# Altium integrated library Microchip Microcontroller 8-Bit PIC16 2.IntLib: 1656 symbols (part 2 of 56)
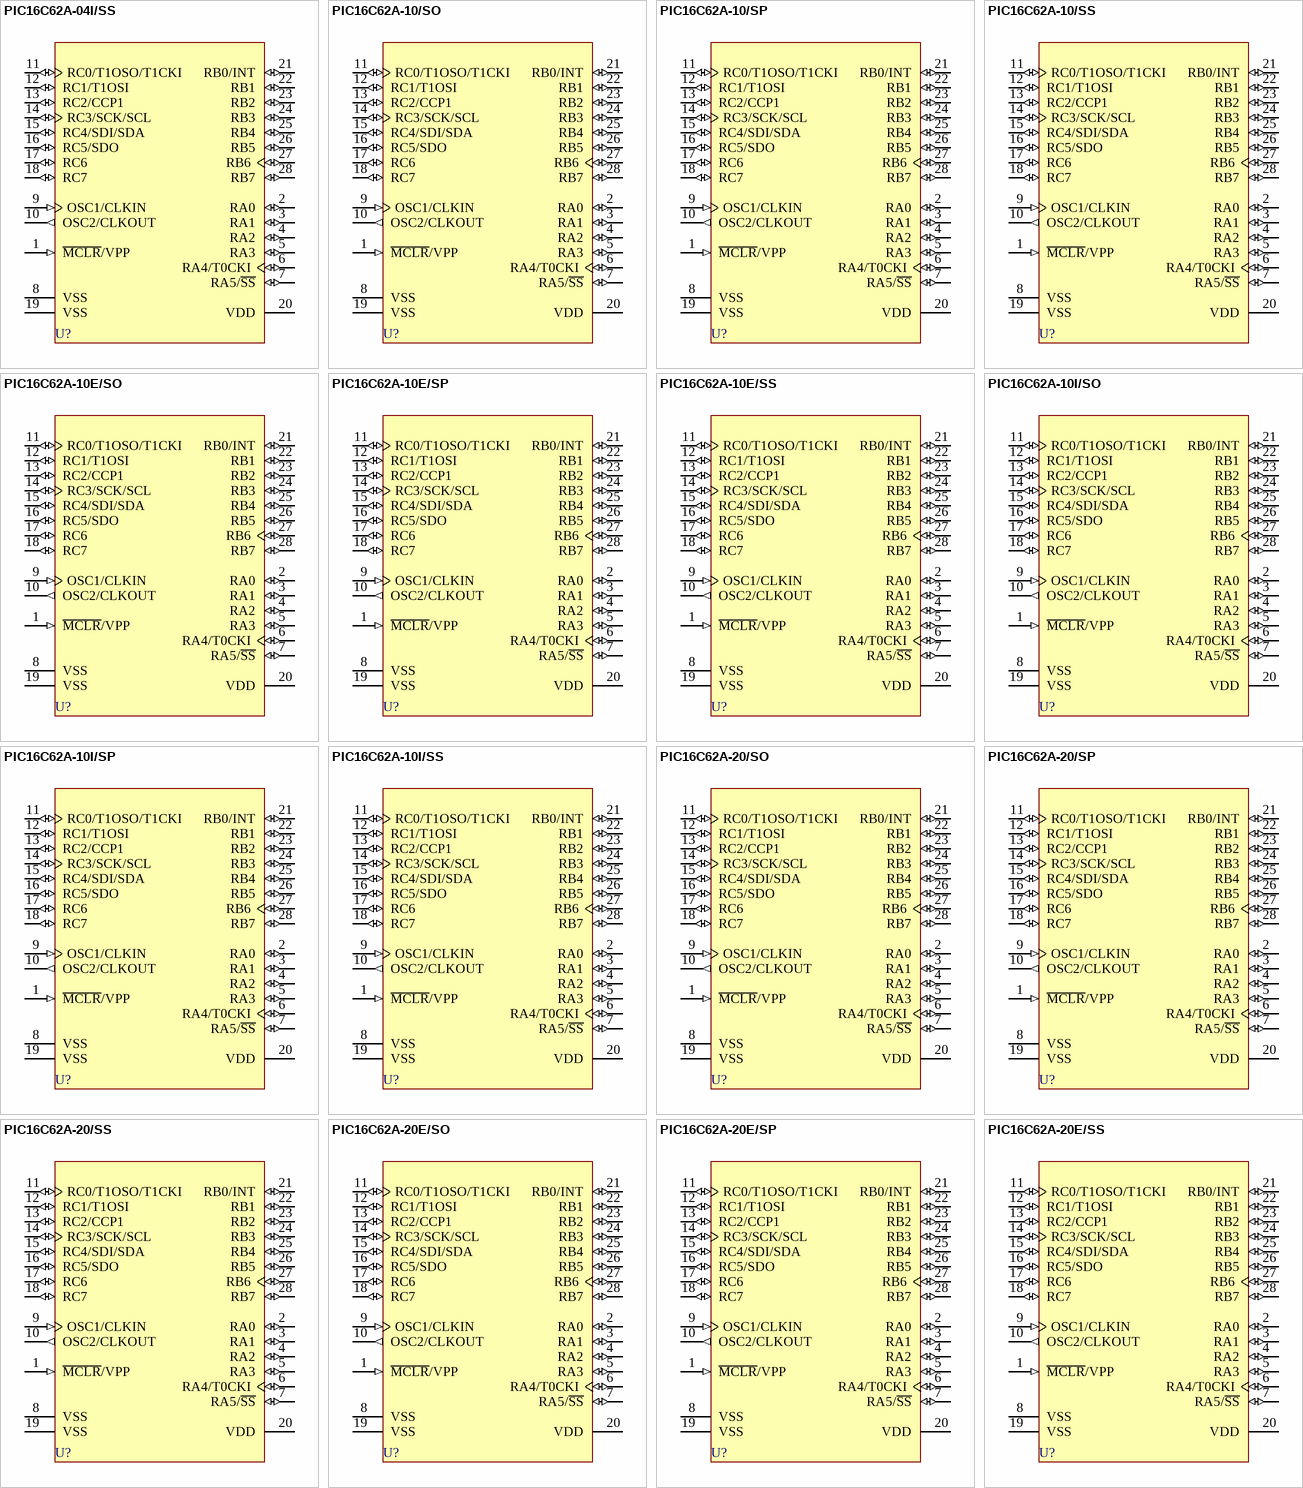
[diagram p109: symbols PIC16C62A-04I/SS to PIC16C62A-20E/SS]

## PIC16C62A-20/SP
designator U?
EPROM-Based 8-Bit CMOS Microcontroller; Note: Not recommended for new designs. Consider PIC16C62B or PIC16F72 instead.; Note: Pin functions T1OSO and T1OSI are reversed on the PIC16C62; Published: 8-Jun-2000; LatestRevisionDate: 04-Mar-2005; LatestRevisionNote: Stylized 3D Model Added.; DatasheetVersion: DS30234D_1997; PackageVersion: 2003; PackageReference: PDIP300-28; Publisher: Altium Limited; PackageDescription: DIP, Plastic, Skinny; 28 Leads; Row Spacing 7.62 mm; Pitch 2.54 mm; Code_JEDEC: MO-095; ComponentLink1Description: Manufacturer Link; ComponentLink1URL: http://www.microchip.com; ComponentLink2Description: Datasheet; ComponentLink2URL: http://ww1.microchip.com/downloads/en/DeviceDoc/30234d.pdf; ComponentLink3Description: Packaging Specification; ComponentLink3URL: http://ww1.microchip.com/downloads/en/PackagingSpec/00049AD.pdf
footprint PDIP300-28 (DIP, Plastic, Skinny; 28 Leads; Row Spacing 7.62 mm; Pitch 2.54 mm)
3D model PDIP300-28 (DIP, Plastic, Skinny; 28 Leads; Row Spacing 7.62 mm; Pitch 2.54 mm)
pins: 1 ~{MCLR}/VPP (in), 2 RA0 (io), 3 RA1 (io), 4 RA2 (io), 5 RA3 (io), 6 RA4/T0CKI (io), 7 RA5/~{SS} (io), 8 VSS (power), 9 OSC1/CLKIN (in), 10 OSC2/CLKOUT (out), 11 RC0/T1OSO/T1CKI (io), 12 RC1/T1OSI (io), 13 RC2/CCP1 (io), 14 RC3/SCK/SCL (io), 15 RC4/SDI/SDA (io), 16 RC5/SDO (io), 17 RC6 (io), 18 RC7 (io), 19 VSS (power), 20 VDD (power), 21 RB0/INT (io), 22 RB1 (io), 23 RB2 (io), 24 RB3 (io), 25 RB4 (io), 26 RB5 (io), 27 RB6 (io), 28 RB7 (io)

## PIC16C62A-20/SS
designator U?
EPROM-Based 8-Bit CMOS Microcontroller; Note: Not recommended for new designs. Consider PIC16C62B or PIC16F72 instead.; Note: Pin functions T1OSO and T1OSI are reversed on the PIC16C62; Published: 8-Jun-2000; LatestRevisionDate: 04-Mar-2005; LatestRevisionNote: Stylized 3D Model Added.; DatasheetVersion: DS30234D_1997; PackageVersion: 2005; PackageReference: SSOP-28; Publisher: Altium Limited; PackageDescription: SSOP, Plastic; 28 Leads; Body Width 5.2 mm; Pitch 0.65 mm; Code_JEDEC: MS-150; ComponentLink1Description: Manufacturer Link; ComponentLink1URL: http://www.microchip.com; ComponentLink2Description: Datasheet; ComponentLink2URL: http://ww1.microchip.com/downloads/en/DeviceDoc/30234d.pdf; ComponentLink3Description: Packaging Specification; ComponentLink3URL: http://ww1.microchip.com/downloads/en/PackagingSpec/00049AD.pdf
footprint SSOP-28 (SSOP, Plastic; 28 Leads; Body Width 5.2 mm; Pitch 0.65 mm)
3D model SSOP-28 (SSOP, Plastic; 28 Leads; Body Width 5.2 mm; Pitch 0.65 mm)
pins: 1 ~{MCLR}/VPP (in), 2 RA0 (io), 3 RA1 (io), 4 RA2 (io), 5 RA3 (io), 6 RA4/T0CKI (io), 7 RA5/~{SS} (io), 8 VSS (power), 9 OSC1/CLKIN (in), 10 OSC2/CLKOUT (out), 11 RC0/T1OSO/T1CKI (io), 12 RC1/T1OSI (io), 13 RC2/CCP1 (io), 14 RC3/SCK/SCL (io), 15 RC4/SDI/SDA (io), 16 RC5/SDO (io), 17 RC6 (io), 18 RC7 (io), 19 VSS (power), 20 VDD (power), 21 RB0/INT (io), 22 RB1 (io), 23 RB2 (io), 24 RB3 (io), 25 RB4 (io), 26 RB5 (io), 27 RB6 (io), 28 RB7 (io)

## PIC16C62A-20E/SO
designator U?
EPROM-Based 8-Bit CMOS Microcontroller; Note: Not recommended for new designs. Consider PIC16C62B or PIC16F72 instead.; Note: Pin functions T1OSO and T1OSI are reversed on the PIC16C62; Published: 8-Jun-2000; LatestRevisionDate: 13-Apr-2006; LatestRevisionNote: IPC-7351 Footprint Added.; DatasheetVersion: DS30234D_1997; PackageVersion: 2005; PackageReference: SOIC300-28; Publisher: Altium Limited; PackageDescription: 28-Pin Small Outline Integrated Circuit 1.27 mm Pitch; Code_JEDEC: MS-013; ComponentLink1Description: Manufacturer Link; ComponentLink1URL: http://www.microchip.com; ComponentLink2Description: Datasheet; ComponentLink2URL: http://ww1.microchip.com/downloads/en/DeviceDoc/30234d.pdf; ComponentLink3Description: Packaging Specification; ComponentLink3URL: http://ww1.microchip.com/downloads/en/PackagingSpec/00049AD.pdf
footprint SOIC300-28_N (SOIC, 28-Leads, Body 17.9x7.5mm, Pitch 1.27mm, IPC Medium Density)
footprint SOIC300-28_L (SOIC, 28-Leads, Body 17.9x7.5mm, Pitch 1.27mm, IPC High Density)
footprint SOIC300-28_M (SOIC, 28-Leads, Body 17.9x7.5mm, Pitch 1.27mm, IPC Low Density)
3D model SOIC300-28 (28-Pin Small Outline Integrated Circuit 1.27 mm Pitch)
pins: 1 ~{MCLR}/VPP (in), 2 RA0 (io), 3 RA1 (io), 4 RA2 (io), 5 RA3 (io), 6 RA4/T0CKI (io), 7 RA5/~{SS} (io), 8 VSS (power), 9 OSC1/CLKIN (in), 10 OSC2/CLKOUT (out), 11 RC0/T1OSO/T1CKI (io), 12 RC1/T1OSI (io), 13 RC2/CCP1 (io), 14 RC3/SCK/SCL (io), 15 RC4/SDI/SDA (io), 16 RC5/SDO (io), 17 RC6 (io), 18 RC7 (io), 19 VSS (power), 20 VDD (power), 21 RB0/INT (io), 22 RB1 (io), 23 RB2 (io), 24 RB3 (io), 25 RB4 (io), 26 RB5 (io), 27 RB6 (io), 28 RB7 (io)

## PIC16C62A-20E/SP
designator U?
EPROM-Based 8-Bit CMOS Microcontroller; Note: Not recommended for new designs. Consider PIC16C62B or PIC16F72 instead.; Note: Pin functions T1OSO and T1OSI are reversed on the PIC16C62; Published: 8-Jun-2000; LatestRevisionDate: 04-Mar-2005; LatestRevisionNote: Stylized 3D Model Added.; DatasheetVersion: DS30234D_1997; PackageVersion: 2003; PackageReference: PDIP300-28; Publisher: Altium Limited; PackageDescription: DIP, Plastic, Skinny; 28 Leads; Row Spacing 7.62 mm; Pitch 2.54 mm; Code_JEDEC: MO-095; ComponentLink1Description: Manufacturer Link; ComponentLink1URL: http://www.microchip.com; ComponentLink2Description: Datasheet; ComponentLink2URL: http://ww1.microchip.com/downloads/en/DeviceDoc/30234d.pdf; ComponentLink3Description: Packaging Specification; ComponentLink3URL: http://ww1.microchip.com/downloads/en/PackagingSpec/00049AD.pdf
footprint PDIP300-28 (DIP, Plastic, Skinny; 28 Leads; Row Spacing 7.62 mm; Pitch 2.54 mm)
3D model PDIP300-28 (DIP, Plastic, Skinny; 28 Leads; Row Spacing 7.62 mm; Pitch 2.54 mm)
pins: 1 ~{MCLR}/VPP (in), 2 RA0 (io), 3 RA1 (io), 4 RA2 (io), 5 RA3 (io), 6 RA4/T0CKI (io), 7 RA5/~{SS} (io), 8 VSS (power), 9 OSC1/CLKIN (in), 10 OSC2/CLKOUT (out), 11 RC0/T1OSO/T1CKI (io), 12 RC1/T1OSI (io), 13 RC2/CCP1 (io), 14 RC3/SCK/SCL (io), 15 RC4/SDI/SDA (io), 16 RC5/SDO (io), 17 RC6 (io), 18 RC7 (io), 19 VSS (power), 20 VDD (power), 21 RB0/INT (io), 22 RB1 (io), 23 RB2 (io), 24 RB3 (io), 25 RB4 (io), 26 RB5 (io), 27 RB6 (io), 28 RB7 (io)

## PIC16C62A-20E/SS
designator U?
EPROM-Based 8-Bit CMOS Microcontroller; Note: Not recommended for new designs. Consider PIC16C62B or PIC16F72 instead.; Note: Pin functions T1OSO and T1OSI are reversed on the PIC16C62; Published: 8-Jun-2000; LatestRevisionDate: 04-Mar-2005; LatestRevisionNote: Stylized 3D Model Added.; DatasheetVersion: DS30234D_1997; PackageVersion: 2005; PackageReference: SSOP-28; Publisher: Altium Limited; PackageDescription: SSOP, Plastic; 28 Leads; Body Width 5.2 mm; Pitch 0.65 mm; Code_JEDEC: MS-150; ComponentLink1Description: Manufacturer Link; ComponentLink1URL: http://www.microchip.com; ComponentLink2Description: Datasheet; ComponentLink2URL: http://ww1.microchip.com/downloads/en/DeviceDoc/30234d.pdf; ComponentLink3Description: Packaging Specification; ComponentLink3URL: http://ww1.microchip.com/downloads/en/PackagingSpec/00049AD.pdf
footprint SSOP-28 (SSOP, Plastic; 28 Leads; Body Width 5.2 mm; Pitch 0.65 mm)
3D model SSOP-28 (SSOP, Plastic; 28 Leads; Body Width 5.2 mm; Pitch 0.65 mm)
pins: 1 ~{MCLR}/VPP (in), 2 RA0 (io), 3 RA1 (io), 4 RA2 (io), 5 RA3 (io), 6 RA4/T0CKI (io), 7 RA5/~{SS} (io), 8 VSS (power), 9 OSC1/CLKIN (in), 10 OSC2/CLKOUT (out), 11 RC0/T1OSO/T1CKI (io), 12 RC1/T1OSI (io), 13 RC2/CCP1 (io), 14 RC3/SCK/SCL (io), 15 RC4/SDI/SDA (io), 16 RC5/SDO (io), 17 RC6 (io), 18 RC7 (io), 19 VSS (power), 20 VDD (power), 21 RB0/INT (io), 22 RB1 (io), 23 RB2 (io), 24 RB3 (io), 25 RB4 (io), 26 RB5 (io), 27 RB6 (io), 28 RB7 (io)

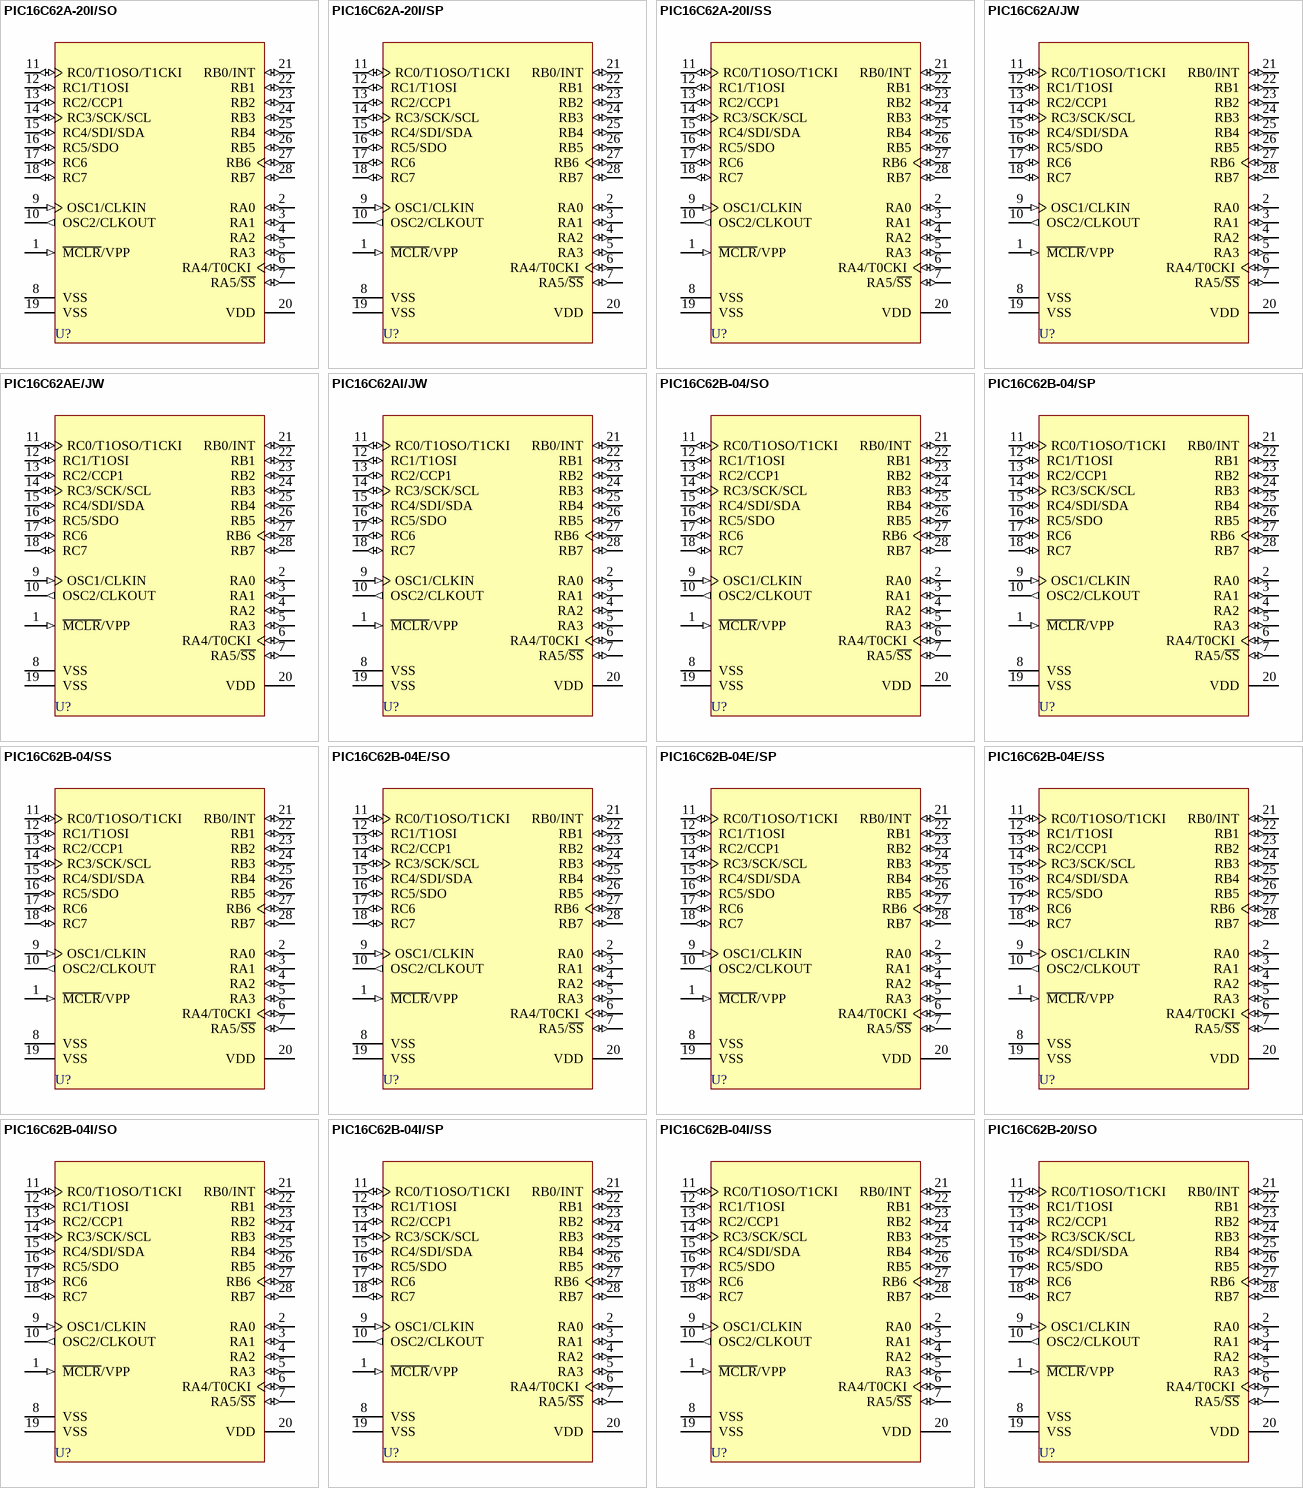
[diagram p2: symbols PIC16C62A-20I/SO to PIC16C62B-20/SO]

## PIC16C62A-20I/SO
designator U?
EPROM-Based 8-Bit CMOS Microcontroller; Note: Not recommended for new designs. Consider PIC16C62B or PIC16F72 instead.; Note: Pin functions T1OSO and T1OSI are reversed on the PIC16C62; Published: 8-Jun-2000; LatestRevisionDate: 13-Apr-2006; LatestRevisionNote: IPC-7351 Footprint Added.; DatasheetVersion: DS30234D_1997; PackageVersion: 2005; PackageReference: SOIC300-28; Publisher: Altium Limited; PackageDescription: 28-Pin Small Outline Integrated Circuit 1.27 mm Pitch; Code_JEDEC: MS-013; ComponentLink1Description: Manufacturer Link; ComponentLink1URL: http://www.microchip.com; ComponentLink2Description: Datasheet; ComponentLink2URL: http://ww1.microchip.com/downloads/en/DeviceDoc/30234d.pdf; ComponentLink3Description: Packaging Specification; ComponentLink3URL: http://ww1.microchip.com/downloads/en/PackagingSpec/00049AD.pdf
footprint SOIC300-28_N (SOIC, 28-Leads, Body 17.9x7.5mm, Pitch 1.27mm, IPC Medium Density)
footprint SOIC300-28_L (SOIC, 28-Leads, Body 17.9x7.5mm, Pitch 1.27mm, IPC High Density)
footprint SOIC300-28_M (SOIC, 28-Leads, Body 17.9x7.5mm, Pitch 1.27mm, IPC Low Density)
3D model SOIC300-28 (28-Pin Small Outline Integrated Circuit 1.27 mm Pitch)
pins: 1 ~{MCLR}/VPP (in), 2 RA0 (io), 3 RA1 (io), 4 RA2 (io), 5 RA3 (io), 6 RA4/T0CKI (io), 7 RA5/~{SS} (io), 8 VSS (power), 9 OSC1/CLKIN (in), 10 OSC2/CLKOUT (out), 11 RC0/T1OSO/T1CKI (io), 12 RC1/T1OSI (io), 13 RC2/CCP1 (io), 14 RC3/SCK/SCL (io), 15 RC4/SDI/SDA (io), 16 RC5/SDO (io), 17 RC6 (io), 18 RC7 (io), 19 VSS (power), 20 VDD (power), 21 RB0/INT (io), 22 RB1 (io), 23 RB2 (io), 24 RB3 (io), 25 RB4 (io), 26 RB5 (io), 27 RB6 (io), 28 RB7 (io)

## PIC16C62A-20I/SP
designator U?
EPROM-Based 8-Bit CMOS Microcontroller; Note: Not recommended for new designs. Consider PIC16C62B or PIC16F72 instead.; Note: Pin functions T1OSO and T1OSI are reversed on the PIC16C62; Published: 8-Jun-2000; LatestRevisionDate: 04-Mar-2005; LatestRevisionNote: Stylized 3D Model Added.; DatasheetVersion: DS30234D_1997; PackageVersion: 2003; PackageReference: PDIP300-28; Publisher: Altium Limited; PackageDescription: DIP, Plastic, Skinny; 28 Leads; Row Spacing 7.62 mm; Pitch 2.54 mm; Code_JEDEC: MO-095; ComponentLink1Description: Manufacturer Link; ComponentLink1URL: http://www.microchip.com; ComponentLink2Description: Datasheet; ComponentLink2URL: http://ww1.microchip.com/downloads/en/DeviceDoc/30234d.pdf; ComponentLink3Description: Packaging Specification; ComponentLink3URL: http://ww1.microchip.com/downloads/en/PackagingSpec/00049AD.pdf
footprint PDIP300-28 (DIP, Plastic, Skinny; 28 Leads; Row Spacing 7.62 mm; Pitch 2.54 mm)
3D model PDIP300-28 (DIP, Plastic, Skinny; 28 Leads; Row Spacing 7.62 mm; Pitch 2.54 mm)
pins: 1 ~{MCLR}/VPP (in), 2 RA0 (io), 3 RA1 (io), 4 RA2 (io), 5 RA3 (io), 6 RA4/T0CKI (io), 7 RA5/~{SS} (io), 8 VSS (power), 9 OSC1/CLKIN (in), 10 OSC2/CLKOUT (out), 11 RC0/T1OSO/T1CKI (io), 12 RC1/T1OSI (io), 13 RC2/CCP1 (io), 14 RC3/SCK/SCL (io), 15 RC4/SDI/SDA (io), 16 RC5/SDO (io), 17 RC6 (io), 18 RC7 (io), 19 VSS (power), 20 VDD (power), 21 RB0/INT (io), 22 RB1 (io), 23 RB2 (io), 24 RB3 (io), 25 RB4 (io), 26 RB5 (io), 27 RB6 (io), 28 RB7 (io)

## PIC16C62A-20I/SS
designator U?
EPROM-Based 8-Bit CMOS Microcontroller; Note: Not recommended for new designs. Consider PIC16C62B or PIC16F72 instead.; Note: Pin functions T1OSO and T1OSI are reversed on the PIC16C62; Published: 8-Jun-2000; LatestRevisionDate: 04-Mar-2005; LatestRevisionNote: Stylized 3D Model Added.; DatasheetVersion: DS30234D_1997; PackageVersion: 2005; PackageReference: SSOP-28; Publisher: Altium Limited; PackageDescription: SSOP, Plastic; 28 Leads; Body Width 5.2 mm; Pitch 0.65 mm; Code_JEDEC: MS-150; ComponentLink1Description: Manufacturer Link; ComponentLink1URL: http://www.microchip.com; ComponentLink2Description: Datasheet; ComponentLink2URL: http://ww1.microchip.com/downloads/en/DeviceDoc/30234d.pdf; ComponentLink3Description: Packaging Specification; ComponentLink3URL: http://ww1.microchip.com/downloads/en/PackagingSpec/00049AD.pdf
footprint SSOP-28 (SSOP, Plastic; 28 Leads; Body Width 5.2 mm; Pitch 0.65 mm)
3D model SSOP-28 (SSOP, Plastic; 28 Leads; Body Width 5.2 mm; Pitch 0.65 mm)
pins: 1 ~{MCLR}/VPP (in), 2 RA0 (io), 3 RA1 (io), 4 RA2 (io), 5 RA3 (io), 6 RA4/T0CKI (io), 7 RA5/~{SS} (io), 8 VSS (power), 9 OSC1/CLKIN (in), 10 OSC2/CLKOUT (out), 11 RC0/T1OSO/T1CKI (io), 12 RC1/T1OSI (io), 13 RC2/CCP1 (io), 14 RC3/SCK/SCL (io), 15 RC4/SDI/SDA (io), 16 RC5/SDO (io), 17 RC6 (io), 18 RC7 (io), 19 VSS (power), 20 VDD (power), 21 RB0/INT (io), 22 RB1 (io), 23 RB2 (io), 24 RB3 (io), 25 RB4 (io), 26 RB5 (io), 27 RB6 (io), 28 RB7 (io)

## PIC16C62A/JW
designator U?
EPROM-Based 8-Bit CMOS Microcontroller; Note: Not recommended for new designs. Consider PIC16C62B or PIC16F72 instead.; Note: Pin functions T1OSO and T1OSI are reversed on the PIC16C62; Published: 8-Jun-2000; LatestRevisionDate: 04-Mar-2005; LatestRevisionNote: Stylized 3D Model Added.; DatasheetVersion: DS30234D_1997; PackageVersion: 2005; PackageReference: SideBrazed-28; Publisher: Altium Limited; PackageDescription: DIP, Side Brazed, Window; 28 Leads; Row Spacing 7.62 mm; Pitch 2.54 mm; Code_JEDEC: MS-015; ComponentLink1Description: Manufacturer Link; ComponentLink1URL: http://www.microchip.com; ComponentLink2Description: Datasheet; ComponentLink2URL: http://ww1.microchip.com/downloads/en/DeviceDoc/30234d.pdf; ComponentLink3Description: Packaging Specification; ComponentLink3URL: http://ww1.microchip.com/downloads/en/PackagingSpec/00049AD.pdf
footprint SideBrazed-28 (DIP, Side Brazed, Window; 28 Leads; Row Spacing 7.62 mm; Pitch 2.54 mm)
3D model SideBrazed-28 (DIP, Side Brazed, Window; 28 Leads; Row Spacing 7.62 mm; Pitch 2.54 mm)
pins: 1 ~{MCLR}/VPP (in), 2 RA0 (io), 3 RA1 (io), 4 RA2 (io), 5 RA3 (io), 6 RA4/T0CKI (io), 7 RA5/~{SS} (io), 8 VSS (power), 9 OSC1/CLKIN (in), 10 OSC2/CLKOUT (out), 11 RC0/T1OSO/T1CKI (io), 12 RC1/T1OSI (io), 13 RC2/CCP1 (io), 14 RC3/SCK/SCL (io), 15 RC4/SDI/SDA (io), 16 RC5/SDO (io), 17 RC6 (io), 18 RC7 (io), 19 VSS (power), 20 VDD (power), 21 RB0/INT (io), 22 RB1 (io), 23 RB2 (io), 24 RB3 (io), 25 RB4 (io), 26 RB5 (io), 27 RB6 (io), 28 RB7 (io)

## PIC16C62AE/JW
designator U?
EPROM-Based 8-Bit CMOS Microcontroller; Note: Not recommended for new designs. Consider PIC16C62B or PIC16F72 instead.; Note: Pin functions T1OSO and T1OSI are reversed on the PIC16C62; Published: 8-Jun-2000; LatestRevisionDate: 04-Mar-2005; LatestRevisionNote: Stylized 3D Model Added.; DatasheetVersion: DS30234D_1997; PackageVersion: 2005; PackageReference: SideBrazed-28; Publisher: Altium Limited; PackageDescription: DIP, Side Brazed, Window; 28 Leads; Row Spacing 7.62 mm; Pitch 2.54 mm; Code_JEDEC: MS-015; ComponentLink1Description: Manufacturer Link; ComponentLink1URL: http://www.microchip.com; ComponentLink2Description: Datasheet; ComponentLink2URL: http://ww1.microchip.com/downloads/en/DeviceDoc/30234d.pdf; ComponentLink3Description: Packaging Specification; ComponentLink3URL: http://ww1.microchip.com/downloads/en/PackagingSpec/00049AD.pdf
footprint SideBrazed-28 (DIP, Side Brazed, Window; 28 Leads; Row Spacing 7.62 mm; Pitch 2.54 mm)
3D model SideBrazed-28 (DIP, Side Brazed, Window; 28 Leads; Row Spacing 7.62 mm; Pitch 2.54 mm)
pins: 1 ~{MCLR}/VPP (in), 2 RA0 (io), 3 RA1 (io), 4 RA2 (io), 5 RA3 (io), 6 RA4/T0CKI (io), 7 RA5/~{SS} (io), 8 VSS (power), 9 OSC1/CLKIN (in), 10 OSC2/CLKOUT (out), 11 RC0/T1OSO/T1CKI (io), 12 RC1/T1OSI (io), 13 RC2/CCP1 (io), 14 RC3/SCK/SCL (io), 15 RC4/SDI/SDA (io), 16 RC5/SDO (io), 17 RC6 (io), 18 RC7 (io), 19 VSS (power), 20 VDD (power), 21 RB0/INT (io), 22 RB1 (io), 23 RB2 (io), 24 RB3 (io), 25 RB4 (io), 26 RB5 (io), 27 RB6 (io), 28 RB7 (io)

## PIC16C62AI/JW
designator U?
EPROM-Based 8-Bit CMOS Microcontroller; Note: Not recommended for new designs. Consider PIC16C62B or PIC16F72 instead.; Note: Pin functions T1OSO and T1OSI are reversed on the PIC16C62; Published: 8-Jun-2000; LatestRevisionDate: 04-Mar-2005; LatestRevisionNote: Stylized 3D Model Added.; DatasheetVersion: DS30234D_1997; PackageVersion: 2005; PackageReference: SideBrazed-28; Publisher: Altium Limited; PackageDescription: DIP, Side Brazed, Window; 28 Leads; Row Spacing 7.62 mm; Pitch 2.54 mm; Code_JEDEC: MS-015; ComponentLink1Description: Manufacturer Link; ComponentLink1URL: http://www.microchip.com; ComponentLink2Description: Datasheet; ComponentLink2URL: http://ww1.microchip.com/downloads/en/DeviceDoc/30234d.pdf; ComponentLink3Description: Packaging Specification; ComponentLink3URL: http://ww1.microchip.com/downloads/en/PackagingSpec/00049AD.pdf
footprint SideBrazed-28 (DIP, Side Brazed, Window; 28 Leads; Row Spacing 7.62 mm; Pitch 2.54 mm)
3D model SideBrazed-28 (DIP, Side Brazed, Window; 28 Leads; Row Spacing 7.62 mm; Pitch 2.54 mm)
pins: 1 ~{MCLR}/VPP (in), 2 RA0 (io), 3 RA1 (io), 4 RA2 (io), 5 RA3 (io), 6 RA4/T0CKI (io), 7 RA5/~{SS} (io), 8 VSS (power), 9 OSC1/CLKIN (in), 10 OSC2/CLKOUT (out), 11 RC0/T1OSO/T1CKI (io), 12 RC1/T1OSI (io), 13 RC2/CCP1 (io), 14 RC3/SCK/SCL (io), 15 RC4/SDI/SDA (io), 16 RC5/SDO (io), 17 RC6 (io), 18 RC7 (io), 19 VSS (power), 20 VDD (power), 21 RB0/INT (io), 22 RB1 (io), 23 RB2 (io), 24 RB3 (io), 25 RB4 (io), 26 RB5 (io), 27 RB6 (io), 28 RB7 (io)

## PIC16C62B-04/SO
designator U?
8-Bit CMOS Microcontroller, 128 Bytes RAM, 4 MHz, 28-Pin SOIC, Standard VDD Range, Commercial Temperature; Note: 4.0 to 5.5V Supply Range in XT, RC and LP osc modes.; Note: 4.5 to 5.5V Supply Range in HS osc mode.; Note: 25mA source/sink per I/O.; Published: 11-Oct-2004; LatestRevisionDate: 13-Apr-2006; LatestRevisionNote: IPC-7351 Footprint Added.; DatasheetVersion: DS35008B_1999; PackageVersion: 2005; PackageReference: SOIC300-28; Publisher: Altium Limited; PackageDescription: 28-Pin Small Outline Integrated Circuit 1.27 mm Pitch; Code_JEDEC: MS-013; ComponentLink1Description: Manufacturer Link; ComponentLink1URL: http://www.microchip.com; ComponentLink2Description: Datasheet; ComponentLink2URL: http://ww1.microchip.com/downloads/en/DeviceDoc/35008b.pdf; ComponentLink3Description: Packaging Specification; ComponentLink3URL: http://ww1.microchip.com/downloads/en/PackagingSpec/00049AD.pdf
footprint SOIC300-28_N (SOIC, 28-Leads, Body 17.9x7.5mm, Pitch 1.27mm, IPC Medium Density)
footprint SOIC300-28_L (SOIC, 28-Leads, Body 17.9x7.5mm, Pitch 1.27mm, IPC High Density)
footprint SOIC300-28_M (SOIC, 28-Leads, Body 17.9x7.5mm, Pitch 1.27mm, IPC Low Density)
3D model SOIC300-28 (28-Pin Small Outline Integrated Circuit 1.27 mm Pitch)
pins: 1 ~{MCLR}/VPP (in), 2 RA0 (io), 3 RA1 (io), 4 RA2 (io), 5 RA3 (io), 6 RA4/T0CKI (io), 7 RA5/~{SS} (io), 8 VSS (power), 9 OSC1/CLKIN (in), 10 OSC2/CLKOUT (out), 11 RC0/T1OSO/T1CKI (io), 12 RC1/T1OSI (io), 13 RC2/CCP1 (io), 14 RC3/SCK/SCL (io), 15 RC4/SDI/SDA (io), 16 RC5/SDO (io), 17 RC6 (io), 18 RC7 (io), 19 VSS (power), 20 VDD (power), 21 RB0/INT (io), 22 RB1 (io), 23 RB2 (io), 24 RB3 (io), 25 RB4 (io), 26 RB5 (io), 27 RB6 (io), 28 RB7 (io)

## PIC16C62B-04/SP
designator U?
8-Bit CMOS Microcontroller, 128 Bytes RAM, 4 MHz, 28-Pin PDIP 300mil, Standard VDD Range, Commercial Temperature; Note: 4.0 to 5.5V Supply Range in XT, RC and LP osc modes.; Note: 4.5 to 5.5V Supply Range in HS osc mode.; Note: 25mA source/sink per I/O.; Published: 11-Oct-2004; LatestRevisionDate: 04-Mar-2005; LatestRevisionNote: Stylized 3D Model Added.; DatasheetVersion: DS35008B_1999; PackageVersion: 2003; PackageReference: PDIP300-28; Publisher: Altium Limited; PackageDescription: DIP, Plastic, Skinny; 28 Leads; Row Spacing 7.62 mm; Pitch 2.54 mm; Code_JEDEC: MO-095; ComponentLink1Description: Manufacturer Link; ComponentLink1URL: http://www.microchip.com; ComponentLink2Description: Datasheet; ComponentLink2URL: http://ww1.microchip.com/downloads/en/DeviceDoc/35008b.pdf; ComponentLink3Description: Packaging Specification; ComponentLink3URL: http://ww1.microchip.com/downloads/en/PackagingSpec/00049AD.pdf
footprint PDIP300-28 (DIP, Plastic, Skinny; 28 Leads; Row Spacing 7.62 mm; Pitch 2.54 mm)
3D model PDIP300-28 (DIP, Plastic, Skinny; 28 Leads; Row Spacing 7.62 mm; Pitch 2.54 mm)
pins: 1 ~{MCLR}/VPP (in), 2 RA0 (io), 3 RA1 (io), 4 RA2 (io), 5 RA3 (io), 6 RA4/T0CKI (io), 7 RA5/~{SS} (io), 8 VSS (power), 9 OSC1/CLKIN (in), 10 OSC2/CLKOUT (out), 11 RC0/T1OSO/T1CKI (io), 12 RC1/T1OSI (io), 13 RC2/CCP1 (io), 14 RC3/SCK/SCL (io), 15 RC4/SDI/SDA (io), 16 RC5/SDO (io), 17 RC6 (io), 18 RC7 (io), 19 VSS (power), 20 VDD (power), 21 RB0/INT (io), 22 RB1 (io), 23 RB2 (io), 24 RB3 (io), 25 RB4 (io), 26 RB5 (io), 27 RB6 (io), 28 RB7 (io)

## PIC16C62B-04/SS
designator U?
8-Bit CMOS Microcontroller, 128 Bytes RAM, 4 MHz, 28-Pin SSOP, Standard VDD Range, Commercial Temperature; Note: 4.0 to 5.5V Supply Range in XT, RC and LP osc modes.; Note: 4.5 to 5.5V Supply Range in HS osc mode.; Note: 25mA source/sink per I/O.; Published: 11-Oct-2004; LatestRevisionDate: 04-Mar-2005; LatestRevisionNote: Stylized 3D Model Added.; DatasheetVersion: DS35008B_1999; PackageVersion: 2005; PackageReference: SSOP-28; Publisher: Altium Limited; PackageDescription: SSOP, Plastic; 28 Leads; Body Width 5.2 mm; Pitch 0.65 mm; Code_JEDEC: MS-150; ComponentLink1Description: Manufacturer Link; ComponentLink1URL: http://www.microchip.com; ComponentLink2Description: Datasheet; ComponentLink2URL: http://ww1.microchip.com/downloads/en/DeviceDoc/35008b.pdf; ComponentLink3Description: Packaging Specification; ComponentLink3URL: http://ww1.microchip.com/downloads/en/PackagingSpec/00049AD.pdf
footprint SSOP-28 (SSOP, Plastic; 28 Leads; Body Width 5.2 mm; Pitch 0.65 mm)
3D model SSOP-28 (SSOP, Plastic; 28 Leads; Body Width 5.2 mm; Pitch 0.65 mm)
pins: 1 ~{MCLR}/VPP (in), 2 RA0 (io), 3 RA1 (io), 4 RA2 (io), 5 RA3 (io), 6 RA4/T0CKI (io), 7 RA5/~{SS} (io), 8 VSS (power), 9 OSC1/CLKIN (in), 10 OSC2/CLKOUT (out), 11 RC0/T1OSO/T1CKI (io), 12 RC1/T1OSI (io), 13 RC2/CCP1 (io), 14 RC3/SCK/SCL (io), 15 RC4/SDI/SDA (io), 16 RC5/SDO (io), 17 RC6 (io), 18 RC7 (io), 19 VSS (power), 20 VDD (power), 21 RB0/INT (io), 22 RB1 (io), 23 RB2 (io), 24 RB3 (io), 25 RB4 (io), 26 RB5 (io), 27 RB6 (io), 28 RB7 (io)

## PIC16C62B-04E/SO
designator U?
8-Bit CMOS Microcontroller, 128 Bytes RAM, 4 MHz, 28-Pin SOIC, Standard VDD Range, Extended Temperature; Note: 4.0 to 5.5V Supply Range in XT, RC and LP osc modes.; Note: 4.5 to 5.5V Supply Range in HS osc mode.; Note: 25mA source/sink per I/O.; Published: 11-Oct-2004; LatestRevisionDate: 13-Apr-2006; LatestRevisionNote: IPC-7351 Footprint Added.; DatasheetVersion: DS35008B_1999; PackageVersion: 2005; PackageReference: SOIC300-28; Publisher: Altium Limited; PackageDescription: 28-Pin Small Outline Integrated Circuit 1.27 mm Pitch; Code_JEDEC: MS-013; ComponentLink1Description: Manufacturer Link; ComponentLink1URL: http://www.microchip.com; ComponentLink2Description: Datasheet; ComponentLink2URL: http://ww1.microchip.com/downloads/en/DeviceDoc/35008b.pdf; ComponentLink3Description: Packaging Specification; ComponentLink3URL: http://ww1.microchip.com/downloads/en/PackagingSpec/00049AD.pdf
footprint SOIC300-28_N (SOIC, 28-Leads, Body 17.9x7.5mm, Pitch 1.27mm, IPC Medium Density)
footprint SOIC300-28_L (SOIC, 28-Leads, Body 17.9x7.5mm, Pitch 1.27mm, IPC High Density)
footprint SOIC300-28_M (SOIC, 28-Leads, Body 17.9x7.5mm, Pitch 1.27mm, IPC Low Density)
3D model SOIC300-28 (28-Pin Small Outline Integrated Circuit 1.27 mm Pitch)
pins: 1 ~{MCLR}/VPP (in), 2 RA0 (io), 3 RA1 (io), 4 RA2 (io), 5 RA3 (io), 6 RA4/T0CKI (io), 7 RA5/~{SS} (io), 8 VSS (power), 9 OSC1/CLKIN (in), 10 OSC2/CLKOUT (out), 11 RC0/T1OSO/T1CKI (io), 12 RC1/T1OSI (io), 13 RC2/CCP1 (io), 14 RC3/SCK/SCL (io), 15 RC4/SDI/SDA (io), 16 RC5/SDO (io), 17 RC6 (io), 18 RC7 (io), 19 VSS (power), 20 VDD (power), 21 RB0/INT (io), 22 RB1 (io), 23 RB2 (io), 24 RB3 (io), 25 RB4 (io), 26 RB5 (io), 27 RB6 (io), 28 RB7 (io)

## PIC16C62B-04E/SP
designator U?
8-Bit CMOS Microcontroller, 128 Bytes RAM, 4 MHz, 28-Pin PDIP 300mil, Standard VDD Range, Extended Temperature; Note: 4.0 to 5.5V Supply Range in XT, RC and LP osc modes.; Note: 4.5 to 5.5V Supply Range in HS osc mode.; Note: 25mA source/sink per I/O.; Published: 11-Oct-2004; LatestRevisionDate: 04-Mar-2005; LatestRevisionNote: Stylized 3D Model Added.; DatasheetVersion: DS35008B_1999; PackageVersion: 2003; PackageReference: PDIP300-28; Publisher: Altium Limited; PackageDescription: DIP, Plastic, Skinny; 28 Leads; Row Spacing 7.62 mm; Pitch 2.54 mm; Code_JEDEC: MO-095; ComponentLink1Description: Manufacturer Link; ComponentLink1URL: http://www.microchip.com; ComponentLink2Description: Datasheet; ComponentLink2URL: http://ww1.microchip.com/downloads/en/DeviceDoc/35008b.pdf; ComponentLink3Description: Packaging Specification; ComponentLink3URL: http://ww1.microchip.com/downloads/en/PackagingSpec/00049AD.pdf
footprint PDIP300-28 (DIP, Plastic, Skinny; 28 Leads; Row Spacing 7.62 mm; Pitch 2.54 mm)
3D model PDIP300-28 (DIP, Plastic, Skinny; 28 Leads; Row Spacing 7.62 mm; Pitch 2.54 mm)
pins: 1 ~{MCLR}/VPP (in), 2 RA0 (io), 3 RA1 (io), 4 RA2 (io), 5 RA3 (io), 6 RA4/T0CKI (io), 7 RA5/~{SS} (io), 8 VSS (power), 9 OSC1/CLKIN (in), 10 OSC2/CLKOUT (out), 11 RC0/T1OSO/T1CKI (io), 12 RC1/T1OSI (io), 13 RC2/CCP1 (io), 14 RC3/SCK/SCL (io), 15 RC4/SDI/SDA (io), 16 RC5/SDO (io), 17 RC6 (io), 18 RC7 (io), 19 VSS (power), 20 VDD (power), 21 RB0/INT (io), 22 RB1 (io), 23 RB2 (io), 24 RB3 (io), 25 RB4 (io), 26 RB5 (io), 27 RB6 (io), 28 RB7 (io)

## PIC16C62B-04E/SS
designator U?
8-Bit CMOS Microcontroller, 128 Bytes RAM, 4 MHz, 28-Pin SSOP, Standard VDD Range, Extended Temperature; Note: 4.0 to 5.5V Supply Range in XT, RC and LP osc modes.; Note: 4.5 to 5.5V Supply Range in HS osc mode.; Note: 25mA source/sink per I/O.; Published: 11-Oct-2004; LatestRevisionDate: 04-Mar-2005; LatestRevisionNote: Stylized 3D Model Added.; DatasheetVersion: DS35008B_1999; PackageVersion: 2005; PackageReference: SSOP-28; Publisher: Altium Limited; PackageDescription: SSOP, Plastic; 28 Leads; Body Width 5.2 mm; Pitch 0.65 mm; Code_JEDEC: MS-150; ComponentLink1Description: Manufacturer Link; ComponentLink1URL: http://www.microchip.com; ComponentLink2Description: Datasheet; ComponentLink2URL: http://ww1.microchip.com/downloads/en/DeviceDoc/35008b.pdf; ComponentLink3Description: Packaging Specification; ComponentLink3URL: http://ww1.microchip.com/downloads/en/PackagingSpec/00049AD.pdf
footprint SSOP-28 (SSOP, Plastic; 28 Leads; Body Width 5.2 mm; Pitch 0.65 mm)
3D model SSOP-28 (SSOP, Plastic; 28 Leads; Body Width 5.2 mm; Pitch 0.65 mm)
pins: 1 ~{MCLR}/VPP (in), 2 RA0 (io), 3 RA1 (io), 4 RA2 (io), 5 RA3 (io), 6 RA4/T0CKI (io), 7 RA5/~{SS} (io), 8 VSS (power), 9 OSC1/CLKIN (in), 10 OSC2/CLKOUT (out), 11 RC0/T1OSO/T1CKI (io), 12 RC1/T1OSI (io), 13 RC2/CCP1 (io), 14 RC3/SCK/SCL (io), 15 RC4/SDI/SDA (io), 16 RC5/SDO (io), 17 RC6 (io), 18 RC7 (io), 19 VSS (power), 20 VDD (power), 21 RB0/INT (io), 22 RB1 (io), 23 RB2 (io), 24 RB3 (io), 25 RB4 (io), 26 RB5 (io), 27 RB6 (io), 28 RB7 (io)

## PIC16C62B-04I/SO
designator U?
8-Bit CMOS Microcontroller, 128 Bytes RAM, 4 MHz, 28-Pin SOIC, Standard VDD Range, Industrial Temperature; Note: 4.0 to 5.5V Supply Range in XT, RC and LP osc modes.; Note: 4.5 to 5.5V Supply Range in HS osc mode.; Note: 25mA source/sink per I/O.; Published: 11-Oct-2004; LatestRevisionDate: 13-Apr-2006; LatestRevisionNote: IPC-7351 Footprint Added.; DatasheetVersion: DS35008B_1999; PackageVersion: 2005; PackageReference: SOIC300-28; Publisher: Altium Limited; PackageDescription: 28-Pin Small Outline Integrated Circuit 1.27 mm Pitch; Code_JEDEC: MS-013; ComponentLink1Description: Manufacturer Link; ComponentLink1URL: http://www.microchip.com; ComponentLink2Description: Datasheet; ComponentLink2URL: http://ww1.microchip.com/downloads/en/DeviceDoc/35008b.pdf; ComponentLink3Description: Packaging Specification; ComponentLink3URL: http://ww1.microchip.com/downloads/en/PackagingSpec/00049AD.pdf
footprint SOIC300-28_N (SOIC, 28-Leads, Body 17.9x7.5mm, Pitch 1.27mm, IPC Medium Density)
footprint SOIC300-28_L (SOIC, 28-Leads, Body 17.9x7.5mm, Pitch 1.27mm, IPC High Density)
footprint SOIC300-28_M (SOIC, 28-Leads, Body 17.9x7.5mm, Pitch 1.27mm, IPC Low Density)
3D model SOIC300-28 (28-Pin Small Outline Integrated Circuit 1.27 mm Pitch)
pins: 1 ~{MCLR}/VPP (in), 2 RA0 (io), 3 RA1 (io), 4 RA2 (io), 5 RA3 (io), 6 RA4/T0CKI (io), 7 RA5/~{SS} (io), 8 VSS (power), 9 OSC1/CLKIN (in), 10 OSC2/CLKOUT (out), 11 RC0/T1OSO/T1CKI (io), 12 RC1/T1OSI (io), 13 RC2/CCP1 (io), 14 RC3/SCK/SCL (io), 15 RC4/SDI/SDA (io), 16 RC5/SDO (io), 17 RC6 (io), 18 RC7 (io), 19 VSS (power), 20 VDD (power), 21 RB0/INT (io), 22 RB1 (io), 23 RB2 (io), 24 RB3 (io), 25 RB4 (io), 26 RB5 (io), 27 RB6 (io), 28 RB7 (io)

## PIC16C62B-04I/SP
designator U?
8-Bit CMOS Microcontroller, 128 Bytes RAM, 4 MHz, 28-Pin PDIP 300mil, Standard VDD Range, Industrial Temperature; Note: 4.0 to 5.5V Supply Range in XT, RC and LP osc modes.; Note: 4.5 to 5.5V Supply Range in HS osc mode.; Note: 25mA source/sink per I/O.; Published: 11-Oct-2004; LatestRevisionDate: 04-Mar-2005; LatestRevisionNote: Stylized 3D Model Added.; DatasheetVersion: DS35008B_1999; PackageVersion: 2003; PackageReference: PDIP300-28; Publisher: Altium Limited; PackageDescription: DIP, Plastic, Skinny; 28 Leads; Row Spacing 7.62 mm; Pitch 2.54 mm; Code_JEDEC: MO-095; ComponentLink1Description: Manufacturer Link; ComponentLink1URL: http://www.microchip.com; ComponentLink2Description: Datasheet; ComponentLink2URL: http://ww1.microchip.com/downloads/en/DeviceDoc/35008b.pdf; ComponentLink3Description: Packaging Specification; ComponentLink3URL: http://ww1.microchip.com/downloads/en/PackagingSpec/00049AD.pdf
footprint PDIP300-28 (DIP, Plastic, Skinny; 28 Leads; Row Spacing 7.62 mm; Pitch 2.54 mm)
3D model PDIP300-28 (DIP, Plastic, Skinny; 28 Leads; Row Spacing 7.62 mm; Pitch 2.54 mm)
pins: 1 ~{MCLR}/VPP (in), 2 RA0 (io), 3 RA1 (io), 4 RA2 (io), 5 RA3 (io), 6 RA4/T0CKI (io), 7 RA5/~{SS} (io), 8 VSS (power), 9 OSC1/CLKIN (in), 10 OSC2/CLKOUT (out), 11 RC0/T1OSO/T1CKI (io), 12 RC1/T1OSI (io), 13 RC2/CCP1 (io), 14 RC3/SCK/SCL (io), 15 RC4/SDI/SDA (io), 16 RC5/SDO (io), 17 RC6 (io), 18 RC7 (io), 19 VSS (power), 20 VDD (power), 21 RB0/INT (io), 22 RB1 (io), 23 RB2 (io), 24 RB3 (io), 25 RB4 (io), 26 RB5 (io), 27 RB6 (io), 28 RB7 (io)

## PIC16C62B-04I/SS
designator U?
8-Bit CMOS Microcontroller, 128 Bytes RAM, 4 MHz, 28-Pin SSOP, Standard VDD Range, Industrial Temperature; Note: 4.0 to 5.5V Supply Range in XT, RC and LP osc modes.; Note: 4.5 to 5.5V Supply Range in HS osc mode.; Note: 25mA source/sink per I/O.; Published: 11-Oct-2004; LatestRevisionDate: 04-Mar-2005; LatestRevisionNote: Stylized 3D Model Added.; DatasheetVersion: DS35008B_1999; PackageVersion: 2005; PackageReference: SSOP-28; Publisher: Altium Limited; PackageDescription: SSOP, Plastic; 28 Leads; Body Width 5.2 mm; Pitch 0.65 mm; Code_JEDEC: MS-150; ComponentLink1Description: Manufacturer Link; ComponentLink1URL: http://www.microchip.com; ComponentLink2Description: Datasheet; ComponentLink2URL: http://ww1.microchip.com/downloads/en/DeviceDoc/35008b.pdf; ComponentLink3Description: Packaging Specification; ComponentLink3URL: http://ww1.microchip.com/downloads/en/PackagingSpec/00049AD.pdf
footprint SSOP-28 (SSOP, Plastic; 28 Leads; Body Width 5.2 mm; Pitch 0.65 mm)
3D model SSOP-28 (SSOP, Plastic; 28 Leads; Body Width 5.2 mm; Pitch 0.65 mm)
pins: 1 ~{MCLR}/VPP (in), 2 RA0 (io), 3 RA1 (io), 4 RA2 (io), 5 RA3 (io), 6 RA4/T0CKI (io), 7 RA5/~{SS} (io), 8 VSS (power), 9 OSC1/CLKIN (in), 10 OSC2/CLKOUT (out), 11 RC0/T1OSO/T1CKI (io), 12 RC1/T1OSI (io), 13 RC2/CCP1 (io), 14 RC3/SCK/SCL (io), 15 RC4/SDI/SDA (io), 16 RC5/SDO (io), 17 RC6 (io), 18 RC7 (io), 19 VSS (power), 20 VDD (power), 21 RB0/INT (io), 22 RB1 (io), 23 RB2 (io), 24 RB3 (io), 25 RB4 (io), 26 RB5 (io), 27 RB6 (io), 28 RB7 (io)

## PIC16C62B-20/SO
designator U?
8-Bit CMOS Microcontroller, 128 Bytes RAM, 20 MHz, 28-Pin SOIC, Standard VDD Range, Commercial Temperature; Note: 4.0 to 5.5V Supply Range in XT, RC and LP osc modes.; Note: 4.5 to 5.5V Supply Range in HS osc mode.; Note: 25mA source/sink per I/O.; Published: 11-Oct-2004; LatestRevisionDate: 13-Apr-2006; LatestRevisionNote: IPC-7351 Footprint Added.; DatasheetVersion: DS35008B_1999; PackageVersion: 2005; PackageReference: SOIC300-28; Publisher: Altium Limited; PackageDescription: 28-Pin Small Outline Integrated Circuit 1.27 mm Pitch; Code_JEDEC: MS-013; ComponentLink1Description: Manufacturer Link; ComponentLink1URL: http://www.microchip.com; ComponentLink2Description: Datasheet; ComponentLink2URL: http://ww1.microchip.com/downloads/en/DeviceDoc/35008b.pdf; ComponentLink3Description: Packaging Specification; ComponentLink3URL: http://ww1.microchip.com/downloads/en/PackagingSpec/00049AD.pdf
footprint SOIC300-28_N (SOIC, 28-Leads, Body 17.9x7.5mm, Pitch 1.27mm, IPC Medium Density)
footprint SOIC300-28_L (SOIC, 28-Leads, Body 17.9x7.5mm, Pitch 1.27mm, IPC High Density)
footprint SOIC300-28_M (SOIC, 28-Leads, Body 17.9x7.5mm, Pitch 1.27mm, IPC Low Density)
3D model SOIC300-28 (28-Pin Small Outline Integrated Circuit 1.27 mm Pitch)
pins: 1 ~{MCLR}/VPP (in), 2 RA0 (io), 3 RA1 (io), 4 RA2 (io), 5 RA3 (io), 6 RA4/T0CKI (io), 7 RA5/~{SS} (io), 8 VSS (power), 9 OSC1/CLKIN (in), 10 OSC2/CLKOUT (out), 11 RC0/T1OSO/T1CKI (io), 12 RC1/T1OSI (io), 13 RC2/CCP1 (io), 14 RC3/SCK/SCL (io), 15 RC4/SDI/SDA (io), 16 RC5/SDO (io), 17 RC6 (io), 18 RC7 (io), 19 VSS (power), 20 VDD (power), 21 RB0/INT (io), 22 RB1 (io), 23 RB2 (io), 24 RB3 (io), 25 RB4 (io), 26 RB5 (io), 27 RB6 (io), 28 RB7 (io)

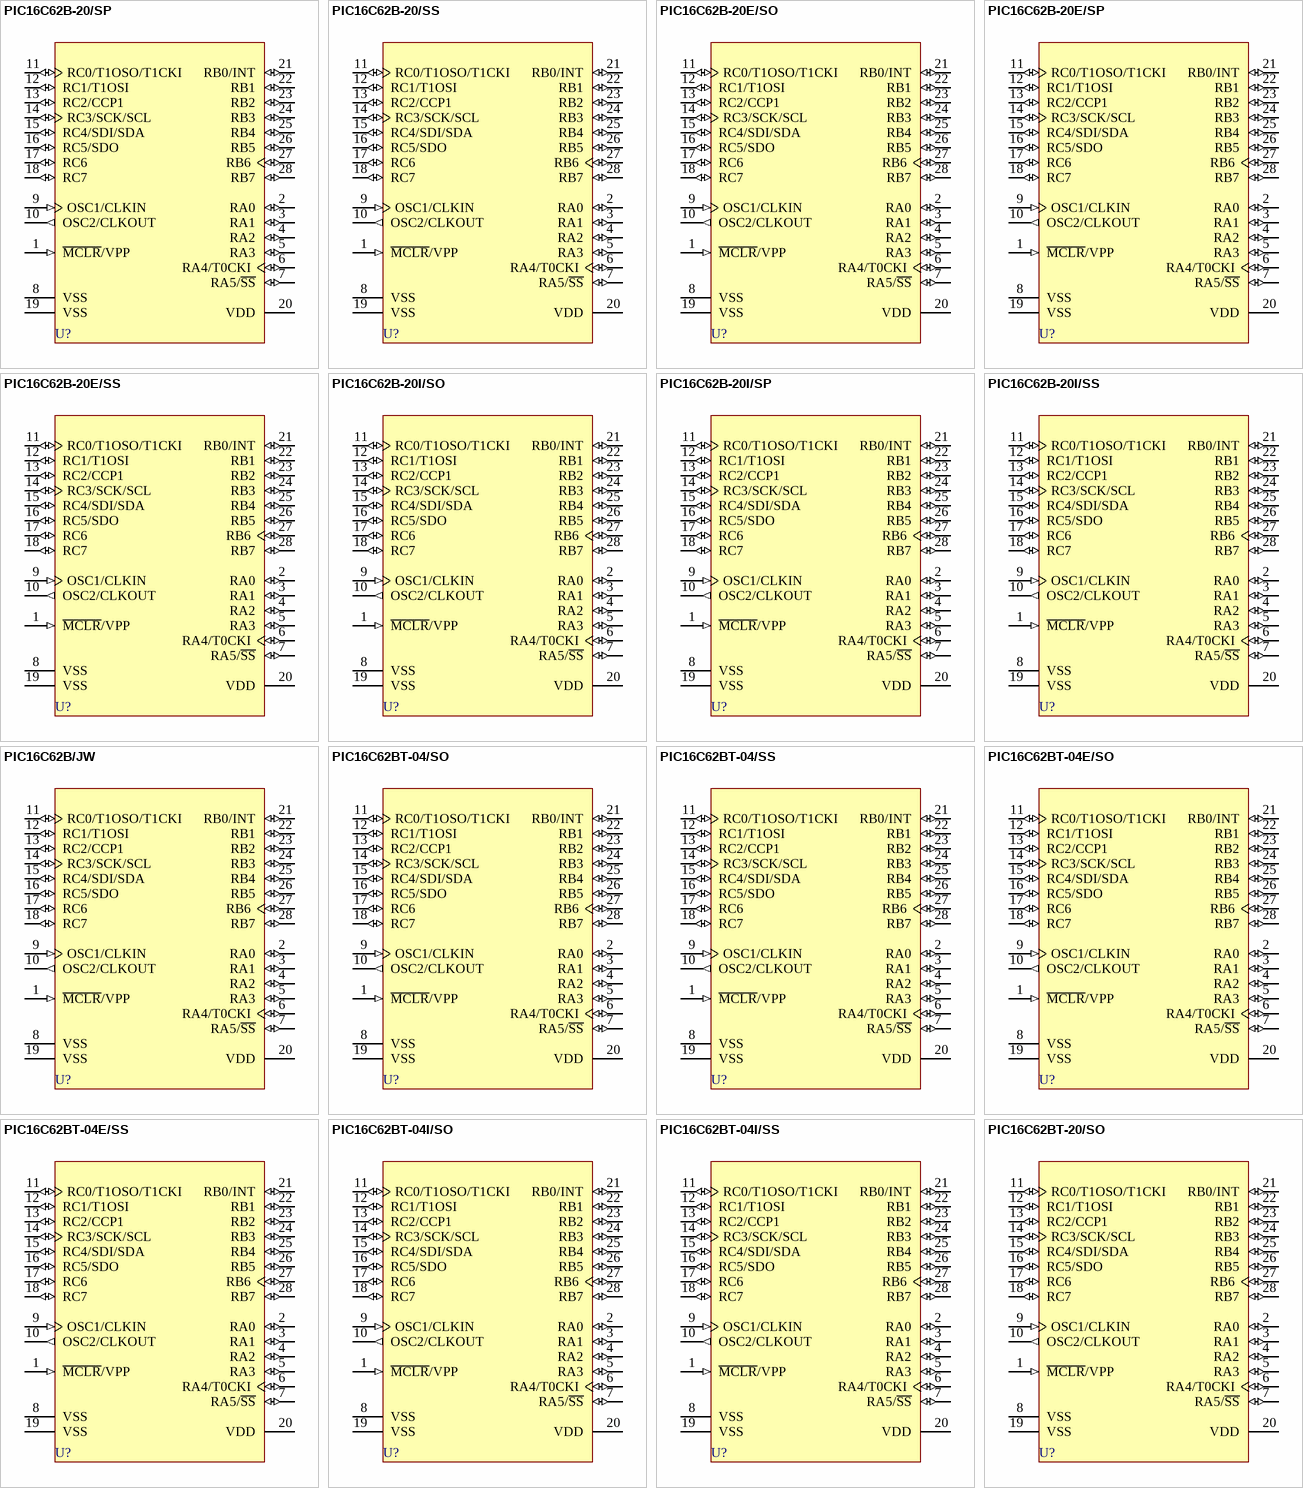
[diagram p3: symbols PIC16C62B-20/SP to PIC16C62BT-20/SO]

## PIC16C62B-20/SP
designator U?
8-Bit CMOS Microcontroller, 128 Bytes RAM, 20 MHz, 28-Pin PDIP 300mil, Standard VDD Range, Commercial Temperature; Note: 4.0 to 5.5V Supply Range in XT, RC and LP osc modes.; Note: 4.5 to 5.5V Supply Range in HS osc mode.; Note: 25mA source/sink per I/O.; Published: 11-Oct-2004; LatestRevisionDate: 04-Mar-2005; LatestRevisionNote: Stylized 3D Model Added.; DatasheetVersion: DS35008B_1999; PackageVersion: 2003; PackageReference: PDIP300-28; Publisher: Altium Limited; PackageDescription: DIP, Plastic, Skinny; 28 Leads; Row Spacing 7.62 mm; Pitch 2.54 mm; Code_JEDEC: MO-095; ComponentLink1Description: Manufacturer Link; ComponentLink1URL: http://www.microchip.com; ComponentLink2Description: Datasheet; ComponentLink2URL: http://ww1.microchip.com/downloads/en/DeviceDoc/35008b.pdf; ComponentLink3Description: Packaging Specification; ComponentLink3URL: http://ww1.microchip.com/downloads/en/PackagingSpec/00049AD.pdf
footprint PDIP300-28 (DIP, Plastic, Skinny; 28 Leads; Row Spacing 7.62 mm; Pitch 2.54 mm)
3D model PDIP300-28 (DIP, Plastic, Skinny; 28 Leads; Row Spacing 7.62 mm; Pitch 2.54 mm)
pins: 1 ~{MCLR}/VPP (in), 2 RA0 (io), 3 RA1 (io), 4 RA2 (io), 5 RA3 (io), 6 RA4/T0CKI (io), 7 RA5/~{SS} (io), 8 VSS (power), 9 OSC1/CLKIN (in), 10 OSC2/CLKOUT (out), 11 RC0/T1OSO/T1CKI (io), 12 RC1/T1OSI (io), 13 RC2/CCP1 (io), 14 RC3/SCK/SCL (io), 15 RC4/SDI/SDA (io), 16 RC5/SDO (io), 17 RC6 (io), 18 RC7 (io), 19 VSS (power), 20 VDD (power), 21 RB0/INT (io), 22 RB1 (io), 23 RB2 (io), 24 RB3 (io), 25 RB4 (io), 26 RB5 (io), 27 RB6 (io), 28 RB7 (io)

## PIC16C62B-20/SS
designator U?
8-Bit CMOS Microcontroller, 128 Bytes RAM, 20 MHz, 28-Pin SSOP, Standard VDD Range, Commercial Temperature; Note: 4.0 to 5.5V Supply Range in XT, RC and LP osc modes.; Note: 4.5 to 5.5V Supply Range in HS osc mode.; Note: 25mA source/sink per I/O.; Published: 11-Oct-2004; LatestRevisionDate: 04-Mar-2005; LatestRevisionNote: Stylized 3D Model Added.; DatasheetVersion: DS35008B_1999; PackageVersion: 2005; PackageReference: SSOP-28; Publisher: Altium Limited; PackageDescription: SSOP, Plastic; 28 Leads; Body Width 5.2 mm; Pitch 0.65 mm; Code_JEDEC: MS-150; ComponentLink1Description: Manufacturer Link; ComponentLink1URL: http://www.microchip.com; ComponentLink2Description: Datasheet; ComponentLink2URL: http://ww1.microchip.com/downloads/en/DeviceDoc/35008b.pdf; ComponentLink3Description: Packaging Specification; ComponentLink3URL: http://ww1.microchip.com/downloads/en/PackagingSpec/00049AD.pdf
footprint SSOP-28 (SSOP, Plastic; 28 Leads; Body Width 5.2 mm; Pitch 0.65 mm)
3D model SSOP-28 (SSOP, Plastic; 28 Leads; Body Width 5.2 mm; Pitch 0.65 mm)
pins: 1 ~{MCLR}/VPP (in), 2 RA0 (io), 3 RA1 (io), 4 RA2 (io), 5 RA3 (io), 6 RA4/T0CKI (io), 7 RA5/~{SS} (io), 8 VSS (power), 9 OSC1/CLKIN (in), 10 OSC2/CLKOUT (out), 11 RC0/T1OSO/T1CKI (io), 12 RC1/T1OSI (io), 13 RC2/CCP1 (io), 14 RC3/SCK/SCL (io), 15 RC4/SDI/SDA (io), 16 RC5/SDO (io), 17 RC6 (io), 18 RC7 (io), 19 VSS (power), 20 VDD (power), 21 RB0/INT (io), 22 RB1 (io), 23 RB2 (io), 24 RB3 (io), 25 RB4 (io), 26 RB5 (io), 27 RB6 (io), 28 RB7 (io)

## PIC16C62B-20E/SO
designator U?
8-Bit CMOS Microcontroller, 128 Bytes RAM, 20 MHz, 28-Pin SOIC, Standard VDD Range, Extended Temperature; Note: 4.0 to 5.5V Supply Range in XT, RC and LP osc modes.; Note: 4.5 to 5.5V Supply Range in HS osc mode.; Note: 25mA source/sink per I/O.; Published: 11-Oct-2004; LatestRevisionDate: 13-Apr-2006; LatestRevisionNote: IPC-7351 Footprint Added.; DatasheetVersion: DS35008B_1999; PackageVersion: 2005; PackageReference: SOIC300-28; Publisher: Altium Limited; PackageDescription: 28-Pin Small Outline Integrated Circuit 1.27 mm Pitch; Code_JEDEC: MS-013; ComponentLink1Description: Manufacturer Link; ComponentLink1URL: http://www.microchip.com; ComponentLink2Description: Datasheet; ComponentLink2URL: http://ww1.microchip.com/downloads/en/DeviceDoc/35008b.pdf; ComponentLink3Description: Packaging Specification; ComponentLink3URL: http://ww1.microchip.com/downloads/en/PackagingSpec/00049AD.pdf
footprint SOIC300-28_N (SOIC, 28-Leads, Body 17.9x7.5mm, Pitch 1.27mm, IPC Medium Density)
footprint SOIC300-28_L (SOIC, 28-Leads, Body 17.9x7.5mm, Pitch 1.27mm, IPC High Density)
footprint SOIC300-28_M (SOIC, 28-Leads, Body 17.9x7.5mm, Pitch 1.27mm, IPC Low Density)
3D model SOIC300-28 (28-Pin Small Outline Integrated Circuit 1.27 mm Pitch)
pins: 1 ~{MCLR}/VPP (in), 2 RA0 (io), 3 RA1 (io), 4 RA2 (io), 5 RA3 (io), 6 RA4/T0CKI (io), 7 RA5/~{SS} (io), 8 VSS (power), 9 OSC1/CLKIN (in), 10 OSC2/CLKOUT (out), 11 RC0/T1OSO/T1CKI (io), 12 RC1/T1OSI (io), 13 RC2/CCP1 (io), 14 RC3/SCK/SCL (io), 15 RC4/SDI/SDA (io), 16 RC5/SDO (io), 17 RC6 (io), 18 RC7 (io), 19 VSS (power), 20 VDD (power), 21 RB0/INT (io), 22 RB1 (io), 23 RB2 (io), 24 RB3 (io), 25 RB4 (io), 26 RB5 (io), 27 RB6 (io), 28 RB7 (io)

## PIC16C62B-20E/SP
designator U?
8-Bit CMOS Microcontroller, 128 Bytes RAM, 20 MHz, 28-Pin PDIP 300mil, Standard VDD Range, Extended Temperature; Note: 4.0 to 5.5V Supply Range in XT, RC and LP osc modes.; Note: 4.5 to 5.5V Supply Range in HS osc mode.; Note: 25mA source/sink per I/O.; Published: 11-Oct-2004; LatestRevisionDate: 04-Mar-2005; LatestRevisionNote: Stylized 3D Model Added.; DatasheetVersion: DS35008B_1999; PackageVersion: 2003; PackageReference: PDIP300-28; Publisher: Altium Limited; PackageDescription: DIP, Plastic, Skinny; 28 Leads; Row Spacing 7.62 mm; Pitch 2.54 mm; Code_JEDEC: MO-095; ComponentLink1Description: Manufacturer Link; ComponentLink1URL: http://www.microchip.com; ComponentLink2Description: Datasheet; ComponentLink2URL: http://ww1.microchip.com/downloads/en/DeviceDoc/35008b.pdf; ComponentLink3Description: Packaging Specification; ComponentLink3URL: http://ww1.microchip.com/downloads/en/PackagingSpec/00049AD.pdf
footprint PDIP300-28 (DIP, Plastic, Skinny; 28 Leads; Row Spacing 7.62 mm; Pitch 2.54 mm)
3D model PDIP300-28 (DIP, Plastic, Skinny; 28 Leads; Row Spacing 7.62 mm; Pitch 2.54 mm)
pins: 1 ~{MCLR}/VPP (in), 2 RA0 (io), 3 RA1 (io), 4 RA2 (io), 5 RA3 (io), 6 RA4/T0CKI (io), 7 RA5/~{SS} (io), 8 VSS (power), 9 OSC1/CLKIN (in), 10 OSC2/CLKOUT (out), 11 RC0/T1OSO/T1CKI (io), 12 RC1/T1OSI (io), 13 RC2/CCP1 (io), 14 RC3/SCK/SCL (io), 15 RC4/SDI/SDA (io), 16 RC5/SDO (io), 17 RC6 (io), 18 RC7 (io), 19 VSS (power), 20 VDD (power), 21 RB0/INT (io), 22 RB1 (io), 23 RB2 (io), 24 RB3 (io), 25 RB4 (io), 26 RB5 (io), 27 RB6 (io), 28 RB7 (io)

## PIC16C62B-20E/SS
designator U?
8-Bit CMOS Microcontroller, 128 Bytes RAM, 20 MHz, 28-Pin SSOP, Standard VDD Range, Extended Temperature; Note: 4.0 to 5.5V Supply Range in XT, RC and LP osc modes.; Note: 4.5 to 5.5V Supply Range in HS osc mode.; Note: 25mA source/sink per I/O.; Published: 11-Oct-2004; LatestRevisionDate: 04-Mar-2005; LatestRevisionNote: Stylized 3D Model Added.; DatasheetVersion: DS35008B_1999; PackageVersion: 2005; PackageReference: SSOP-28; Publisher: Altium Limited; PackageDescription: SSOP, Plastic; 28 Leads; Body Width 5.2 mm; Pitch 0.65 mm; Code_JEDEC: MS-150; ComponentLink1Description: Manufacturer Link; ComponentLink1URL: http://www.microchip.com; ComponentLink2Description: Datasheet; ComponentLink2URL: http://ww1.microchip.com/downloads/en/DeviceDoc/35008b.pdf; ComponentLink3Description: Packaging Specification; ComponentLink3URL: http://ww1.microchip.com/downloads/en/PackagingSpec/00049AD.pdf
footprint SSOP-28 (SSOP, Plastic; 28 Leads; Body Width 5.2 mm; Pitch 0.65 mm)
3D model SSOP-28 (SSOP, Plastic; 28 Leads; Body Width 5.2 mm; Pitch 0.65 mm)
pins: 1 ~{MCLR}/VPP (in), 2 RA0 (io), 3 RA1 (io), 4 RA2 (io), 5 RA3 (io), 6 RA4/T0CKI (io), 7 RA5/~{SS} (io), 8 VSS (power), 9 OSC1/CLKIN (in), 10 OSC2/CLKOUT (out), 11 RC0/T1OSO/T1CKI (io), 12 RC1/T1OSI (io), 13 RC2/CCP1 (io), 14 RC3/SCK/SCL (io), 15 RC4/SDI/SDA (io), 16 RC5/SDO (io), 17 RC6 (io), 18 RC7 (io), 19 VSS (power), 20 VDD (power), 21 RB0/INT (io), 22 RB1 (io), 23 RB2 (io), 24 RB3 (io), 25 RB4 (io), 26 RB5 (io), 27 RB6 (io), 28 RB7 (io)

## PIC16C62B-20I/SO
designator U?
8-Bit CMOS Microcontroller, 128 Bytes RAM, 20 MHz, 28-Pin SOIC, Standard VDD Range, Industrial Temperature; Note: 4.0 to 5.5V Supply Range in XT, RC and LP osc modes.; Note: 4.5 to 5.5V Supply Range in HS osc mode.; Note: 25mA source/sink per I/O.; Published: 11-Oct-2004; LatestRevisionDate: 13-Apr-2006; LatestRevisionNote: IPC-7351 Footprint Added.; DatasheetVersion: DS35008B_1999; PackageVersion: 2005; PackageReference: SOIC300-28; Publisher: Altium Limited; PackageDescription: 28-Pin Small Outline Integrated Circuit 1.27 mm Pitch; Code_JEDEC: MS-013; ComponentLink1Description: Manufacturer Link; ComponentLink1URL: http://www.microchip.com; ComponentLink2Description: Datasheet; ComponentLink2URL: http://ww1.microchip.com/downloads/en/DeviceDoc/35008b.pdf; ComponentLink3Description: Packaging Specification; ComponentLink3URL: http://ww1.microchip.com/downloads/en/PackagingSpec/00049AD.pdf
footprint SOIC300-28_N (SOIC, 28-Leads, Body 17.9x7.5mm, Pitch 1.27mm, IPC Medium Density)
footprint SOIC300-28_L (SOIC, 28-Leads, Body 17.9x7.5mm, Pitch 1.27mm, IPC High Density)
footprint SOIC300-28_M (SOIC, 28-Leads, Body 17.9x7.5mm, Pitch 1.27mm, IPC Low Density)
3D model SOIC300-28 (28-Pin Small Outline Integrated Circuit 1.27 mm Pitch)
pins: 1 ~{MCLR}/VPP (in), 2 RA0 (io), 3 RA1 (io), 4 RA2 (io), 5 RA3 (io), 6 RA4/T0CKI (io), 7 RA5/~{SS} (io), 8 VSS (power), 9 OSC1/CLKIN (in), 10 OSC2/CLKOUT (out), 11 RC0/T1OSO/T1CKI (io), 12 RC1/T1OSI (io), 13 RC2/CCP1 (io), 14 RC3/SCK/SCL (io), 15 RC4/SDI/SDA (io), 16 RC5/SDO (io), 17 RC6 (io), 18 RC7 (io), 19 VSS (power), 20 VDD (power), 21 RB0/INT (io), 22 RB1 (io), 23 RB2 (io), 24 RB3 (io), 25 RB4 (io), 26 RB5 (io), 27 RB6 (io), 28 RB7 (io)

## PIC16C62B-20I/SP
designator U?
8-Bit CMOS Microcontroller, 128 Bytes RAM, 20 MHz, 28-Pin PDIP 300mil, Standard VDD Range, Industrial Temperature; Note: 4.0 to 5.5V Supply Range in XT, RC and LP osc modes.; Note: 4.5 to 5.5V Supply Range in HS osc mode.; Note: 25mA source/sink per I/O.; Published: 11-Oct-2004; LatestRevisionDate: 04-Mar-2005; LatestRevisionNote: Stylized 3D Model Added.; DatasheetVersion: DS35008B_1999; PackageVersion: 2003; PackageReference: PDIP300-28; Publisher: Altium Limited; PackageDescription: DIP, Plastic, Skinny; 28 Leads; Row Spacing 7.62 mm; Pitch 2.54 mm; Code_JEDEC: MO-095; ComponentLink1Description: Manufacturer Link; ComponentLink1URL: http://www.microchip.com; ComponentLink2Description: Datasheet; ComponentLink2URL: http://ww1.microchip.com/downloads/en/DeviceDoc/35008b.pdf; ComponentLink3Description: Packaging Specification; ComponentLink3URL: http://ww1.microchip.com/downloads/en/PackagingSpec/00049AD.pdf
footprint PDIP300-28 (DIP, Plastic, Skinny; 28 Leads; Row Spacing 7.62 mm; Pitch 2.54 mm)
3D model PDIP300-28 (DIP, Plastic, Skinny; 28 Leads; Row Spacing 7.62 mm; Pitch 2.54 mm)
pins: 1 ~{MCLR}/VPP (in), 2 RA0 (io), 3 RA1 (io), 4 RA2 (io), 5 RA3 (io), 6 RA4/T0CKI (io), 7 RA5/~{SS} (io), 8 VSS (power), 9 OSC1/CLKIN (in), 10 OSC2/CLKOUT (out), 11 RC0/T1OSO/T1CKI (io), 12 RC1/T1OSI (io), 13 RC2/CCP1 (io), 14 RC3/SCK/SCL (io), 15 RC4/SDI/SDA (io), 16 RC5/SDO (io), 17 RC6 (io), 18 RC7 (io), 19 VSS (power), 20 VDD (power), 21 RB0/INT (io), 22 RB1 (io), 23 RB2 (io), 24 RB3 (io), 25 RB4 (io), 26 RB5 (io), 27 RB6 (io), 28 RB7 (io)

## PIC16C62B-20I/SS
designator U?
8-Bit CMOS Microcontroller, 128 Bytes RAM, 20 MHz, 28-Pin SSOP, Standard VDD Range, Industrial Temperature; Note: 4.0 to 5.5V Supply Range in XT, RC and LP osc modes.; Note: 4.5 to 5.5V Supply Range in HS osc mode.; Note: 25mA source/sink per I/O.; Published: 11-Oct-2004; LatestRevisionDate: 04-Mar-2005; LatestRevisionNote: Stylized 3D Model Added.; DatasheetVersion: DS35008B_1999; PackageVersion: 2005; PackageReference: SSOP-28; Publisher: Altium Limited; PackageDescription: SSOP, Plastic; 28 Leads; Body Width 5.2 mm; Pitch 0.65 mm; Code_JEDEC: MS-150; ComponentLink1Description: Manufacturer Link; ComponentLink1URL: http://www.microchip.com; ComponentLink2Description: Datasheet; ComponentLink2URL: http://ww1.microchip.com/downloads/en/DeviceDoc/35008b.pdf; ComponentLink3Description: Packaging Specification; ComponentLink3URL: http://ww1.microchip.com/downloads/en/PackagingSpec/00049AD.pdf
footprint SSOP-28 (SSOP, Plastic; 28 Leads; Body Width 5.2 mm; Pitch 0.65 mm)
3D model SSOP-28 (SSOP, Plastic; 28 Leads; Body Width 5.2 mm; Pitch 0.65 mm)
pins: 1 ~{MCLR}/VPP (in), 2 RA0 (io), 3 RA1 (io), 4 RA2 (io), 5 RA3 (io), 6 RA4/T0CKI (io), 7 RA5/~{SS} (io), 8 VSS (power), 9 OSC1/CLKIN (in), 10 OSC2/CLKOUT (out), 11 RC0/T1OSO/T1CKI (io), 12 RC1/T1OSI (io), 13 RC2/CCP1 (io), 14 RC3/SCK/SCL (io), 15 RC4/SDI/SDA (io), 16 RC5/SDO (io), 17 RC6 (io), 18 RC7 (io), 19 VSS (power), 20 VDD (power), 21 RB0/INT (io), 22 RB1 (io), 23 RB2 (io), 24 RB3 (io), 25 RB4 (io), 26 RB5 (io), 27 RB6 (io), 28 RB7 (io)

## PIC16C62B/JW
designator U?
8-Bit CMOS Microcontroller, 128 Bytes RAM, 28-Pin CERDIP, UV Erasable, Standard VDD Range, Commercial Temperature; Note: JW Devices can be programmed to any device configuration.; Note: JW Devices meet the electrical requirement of each oscillator type (including LC devices).; Note: 25mA source/sink per I/O.; Published: 11-Oct-2004; LatestRevisionDate: 04-Mar-2005; LatestRevisionNote: Stylized 3D Model Added.; DatasheetVersion: DS35008B_1999; PackageVersion: 2003; PackageReference: CERDIP300W-28; Publisher: Altium Limited; PackageDescription: DIP, Ceramic, Window; 28 Leads; Row Spacing 7.62 mm; Pitch 2.54 mm; Code_JEDEC: MO-058; ComponentLink1Description: Manufacturer Link; ComponentLink1URL: http://www.microchip.com; ComponentLink2Description: Datasheet; ComponentLink2URL: http://ww1.microchip.com/downloads/en/DeviceDoc/35008b.pdf; ComponentLink3Description: Packaging Specification; ComponentLink3URL: http://ww1.microchip.com/downloads/en/PackagingSpec/00049AD.pdf
footprint CERDIP300W-28 (DIP, Ceramic, Window; 28 Leads; Row Spacing 7.62 mm; Pitch 2.54 mm)
3D model CERDIP300W-28 (DIP, Ceramic, Window; 28 Leads; Row Spacing 7.62 mm; Pitch 2.54 mm)
pins: 1 ~{MCLR}/VPP (in), 2 RA0 (io), 3 RA1 (io), 4 RA2 (io), 5 RA3 (io), 6 RA4/T0CKI (io), 7 RA5/~{SS} (io), 8 VSS (power), 9 OSC1/CLKIN (in), 10 OSC2/CLKOUT (out), 11 RC0/T1OSO/T1CKI (io), 12 RC1/T1OSI (io), 13 RC2/CCP1 (io), 14 RC3/SCK/SCL (io), 15 RC4/SDI/SDA (io), 16 RC5/SDO (io), 17 RC6 (io), 18 RC7 (io), 19 VSS (power), 20 VDD (power), 21 RB0/INT (io), 22 RB1 (io), 23 RB2 (io), 24 RB3 (io), 25 RB4 (io), 26 RB5 (io), 27 RB6 (io), 28 RB7 (io)

## PIC16C62BT-04/SO
designator U?
8-Bit CMOS Microcontroller, 128 Bytes RAM, 4 MHz, 28-Pin SOIC, Standard VDD Range, Commercial Temperature, Tape and Reel; Note: 4.0 to 5.5V Supply Range in XT, RC and LP osc modes.; Note: 4.5 to 5.5V Supply Range in HS osc mode.; Note: 25mA source/sink per I/O.; Published: 11-Oct-2004; LatestRevisionDate: 13-Apr-2006; LatestRevisionNote: IPC-7351 Footprint Added.; DatasheetVersion: DS35008B_1999; PackageVersion: 2005; PackageReference: SOIC300-28; Publisher: Altium Limited; PackageDescription: 28-Pin Small Outline Integrated Circuit 1.27 mm Pitch; Code_JEDEC: MS-013; ComponentLink1Description: Manufacturer Link; ComponentLink1URL: http://www.microchip.com; ComponentLink2Description: Datasheet; ComponentLink2URL: http://ww1.microchip.com/downloads/en/DeviceDoc/35008b.pdf; ComponentLink3Description: Packaging Specification; ComponentLink3URL: http://ww1.microchip.com/downloads/en/PackagingSpec/00049AD.pdf
footprint SOIC300-28_N (SOIC, 28-Leads, Body 17.9x7.5mm, Pitch 1.27mm, IPC Medium Density)
footprint SOIC300-28_L (SOIC, 28-Leads, Body 17.9x7.5mm, Pitch 1.27mm, IPC High Density)
footprint SOIC300-28_M (SOIC, 28-Leads, Body 17.9x7.5mm, Pitch 1.27mm, IPC Low Density)
3D model SOIC300-28 (28-Pin Small Outline Integrated Circuit 1.27 mm Pitch)
pins: 1 ~{MCLR}/VPP (in), 2 RA0 (io), 3 RA1 (io), 4 RA2 (io), 5 RA3 (io), 6 RA4/T0CKI (io), 7 RA5/~{SS} (io), 8 VSS (power), 9 OSC1/CLKIN (in), 10 OSC2/CLKOUT (out), 11 RC0/T1OSO/T1CKI (io), 12 RC1/T1OSI (io), 13 RC2/CCP1 (io), 14 RC3/SCK/SCL (io), 15 RC4/SDI/SDA (io), 16 RC5/SDO (io), 17 RC6 (io), 18 RC7 (io), 19 VSS (power), 20 VDD (power), 21 RB0/INT (io), 22 RB1 (io), 23 RB2 (io), 24 RB3 (io), 25 RB4 (io), 26 RB5 (io), 27 RB6 (io), 28 RB7 (io)